# Altium footprint library SOT.PcbLib: 39 footprints (part 2 of 3)
Each footprint in its own frame and in the unit in brackets; x right, y up, seen from the top. Pads: shape width x height; smd on the part's side, far side on the other; paste and mask are expansions set on the pad; w line width, h text height; cw(c..) or ccw(c..) is an arc to the next point about the centre after c.
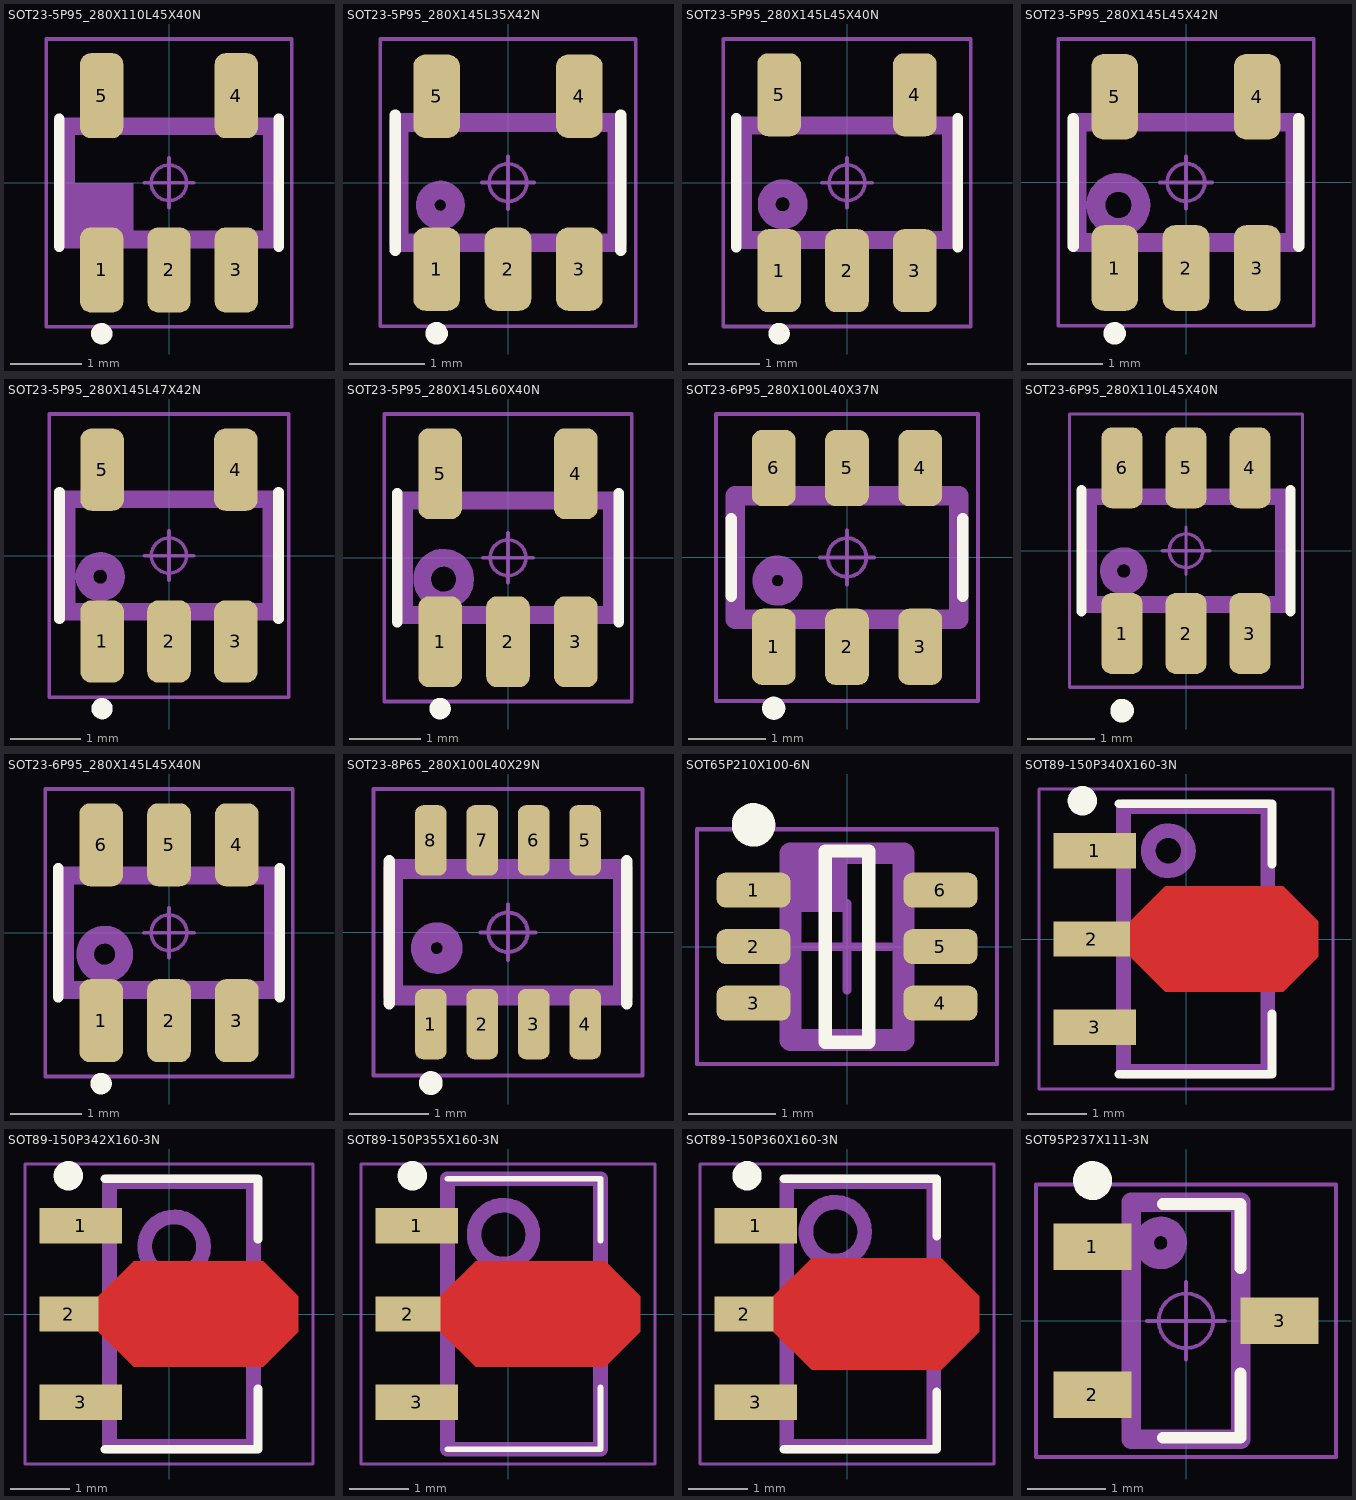
[diagram p1: the footprints below, top view; thin cyan lines are the x and y axes]

## SOT23-5P95_280X110L45X40N [mm] "Small Outline Transistor (SOT23), 0.95 mm pitch; 5 pin, 2.90 mm L X 1.60 mm W X 1.10 mm H body"
height 1.1
pads (5):
  rrect49% 0.61x1.2 smd: 1(-0.95,-1.23) 2(0,-1.23) 3(0.95,-1.23) 4(0.95,1.23) 5(-0.95,1.23)
Top Overlay:
  circle w0.15: c-0.95,-2.13 r0.075
  lines w0.15: -1.55,-0.9 -1.55,0.9 ; 1.55,-0.9 1.55,0.9
Top Assembly:
  rectangle: -1.45,-0.9 -0.5,0
  lines w0.25: -1.45,-0.8 -1.45,0.8 1.45,0.8 1.45,-0.8 -1.45,-0.8
  text ".Designator" at -3.378,1.561 h1.5
Top Courtyard:
  circle w0.05: c0,0 r0.25
  lines w0.05: -0.35,0 0.35,0 ; 0,-0.35 0,0.35 ; -1.73,-2.03 -1.73,2.03 1.73,2.03 1.73,-2.03 -1.73,-2.03
3D body "SOT23-5P95_280X110L45X40.STEP": height 1.1, standoff 0, extent -1.45,-1.4 1.45,1.4

## SOT23-5P95_280X145L35X42N [mm] "Small Outline Transistor (SOT23), 0.95 mm pitch; 5 pin, 2.90 mm L X 1.625 mm W X 1.45 mm H body"
height 1.45
pads (5):
  rrect52% 0.62x1.11 smd: 1(-0.95,-1.15) 2(0,-1.15) 3(0.95,-1.15) 4(0.95,1.15) 5(-0.95,1.15)
Top Overlay:
  circle w0.15: c-0.95,-2.005 r0.075
  lines w0.15: -1.5,-0.9 -1.5,0.9 ; 1.5,-0.9 1.5,0.9
Top Assembly:
  circle w0.25: c-0.9,-0.3 r0.2
  lines w0.25: -1.45,-0.8 -1.45,0.8 1.45,0.8 1.45,-0.8 -1.45,-0.8
  text ".Designator" at 0,0 h1.5
Top Courtyard:
  circle w0.05: c0,0 r0.25
  lines w0.05: -0.35,0 0.35,0 ; 0,-0.35 0,0.35 ; -1.7,-1.91 -1.7,1.91 1.7,1.91 1.7,-1.91 -1.7,-1.91
3D body "SOT23-5P95_280X145L35X42.STEP": height 1.45, standoff 0, extent -1.45,-1.4 1.45,1.4

## SOT23-5P95_280X145L45X40N [mm] "Small Outline Transistor (SOT23), 0.95 mm pitch; 5 pin, 2.90 mm L X 1.60 mm W X 1.45 mm H body"
height 1.45
pads (5):
  rrect49% 0.61x1.16 smd: 1(-0.95,-1.23) 2(0,-1.23) 3(0.95,-1.23) 4(0.95,1.23) 5(-0.95,1.23)
Top Overlay:
  circle w0.15: c-0.95,-2.11 r0.075
  lines w0.15: -1.55,-0.9 -1.55,0.9 ; 1.55,-0.9 1.55,0.9
Top Assembly:
  circle w0.25: c-0.9,-0.3 r0.224
  lines w0.25: -1.45,-0.8 1.45,-0.8 1.45,0.8 -1.45,0.8 -1.45,-0.8
  text ".Designator" at -3.378,1.361 h1.5
Top Courtyard:
  circle w0.05: c0,0 r0.25
  lines w0.05: -0.35,0 0.35,0 ; 0,-0.35 0,0.35 ; -1.73,-2.01 1.73,-2.01 1.73,2.01 -1.73,2.01 -1.73,-2.01
3D body "SOT23-5P95_280X145L45X40.STEP": height 1.45, standoff 0, extent -1.45,-1.4 1.45,1.4

## SOT23-5P95_280X145L45X42N [mm] "Small Outline Transistor (SOT23), 0.95 mm pitch; 5 pin, 2.90 mm L X 1.60 mm W X 1.45 mm H body"
height 1.45
pads (5):
  rrect52% 0.62x1.14 smd: 1(-0.95,-1.14) 2(0,-1.14) 3(0.95,-1.14) 4(0.95,1.14) 5(-0.95,1.14)
Top Overlay:
  circle w0.15: c-0.95,-2.01 r0.075
  lines w0.15: -1.5,-0.85 -1.5,0.85 ; 1.5,-0.85 1.5,0.85
Top Assembly:
  circle w0.25: c-0.9,-0.3 r0.3
  lines w0.25: -1.45,-0.8 -1.45,0.8 1.45,0.8 1.45,-0.8 -1.45,-0.8
  text ".Designator" at -3.378,1.361 h1.5
Top Courtyard:
  circle w0.05: c0,0 r0.25
  lines w0.05: -0.35,0 0.35,0 ; 0,-0.35 0,0.35 ; -1.7,-1.91 -1.7,1.91 1.7,1.91 1.7,-1.91 -1.7,-1.91
3D body "SOT23-5P95_280X145L45X42.STEP": height 1.45, standoff 0, extent -1.45,-1.4 1.45,1.4

## SOT23-5P95_280X145L47X42N [mm] "Small Outline Transistor (SOT23), 0.95 mm pitch; 5 pin, 2.90 mm L X 1.625 mm W X 1.45 mm H body"
height 1.45
pads (5):
  rrect52% 0.62x1.17 smd: 1(-0.95,-1.22) 2(0,-1.22) 3(0.95,-1.22) 4(0.95,1.22) 5(-0.95,1.22)
Top Overlay:
  circle w0.15: c-0.95,-2.175 r0.075
  lines w0.15: -1.555,-0.9 -1.555,0.9 ; 1.555,-0.9 1.555,0.9
Top Assembly:
  circle w0.25: c-0.976,-0.3 r0.224
  lines w0.25: -1.45,-0.8 1.45,-0.8 1.45,0.8 -1.45,0.8 -1.45,-0.8
  text ".Designator" at -3.378,1.261 h1.5
Top Courtyard:
  circle w0.05: c0,0 r0.25
  lines w0.05: -0.35,0 0.35,0 ; 0,-0.35 0,0.35 ; -1.7,-2.01 1.7,-2.01 1.7,2.01 -1.7,2.01 -1.7,-2.01
3D body "SOT23-5P95_280X145L47X42.STEP": height 1.45, standoff 0, extent -1.45,-1.4 1.45,1.4

## SOT23-5P95_280X145L60X40N [mm] "Small Outline Transistor (SOT23), 0.95 mm pitch; 5 pin, 2.90 mm L X 1.60 mm W X 1.45 mm H body"
height 1.45
pads (5):
  rrect49% 0.61x1.27 smd: 1(-0.95,-1.175) 2(0,-1.175) 3(0.95,-1.175) 4(0.95,1.175) 5(-0.95,1.175)
Top Overlay:
  circle w0.15: c-0.95,-2.11 r0.075
  lines w0.15: -1.55,-0.9 -1.55,0.9 ; 1.55,-0.9 1.55,0.9
Top Assembly:
  circle w0.25: c-0.9,-0.3 r0.3
  lines w0.25: -1.45,-0.8 1.45,-0.8 1.45,0.8 -1.45,0.8 -1.45,-0.8
  text ".Designator" at 0,0 h1.5
Top Courtyard:
  circle w0.05: c0,0 r0.25
  lines w0.05: -0.35,0 0.35,0 ; 0,-0.35 0,0.35 ; -1.73,-2.01 1.73,-2.01 1.73,2.01 -1.73,2.01 -1.73,-2.01
3D body "SOT23-5P95_280X145L60X40.STEP": height 1.45, standoff 0, extent -1.45,-1.4 1.45,1.4

## SOT23-6P95_280X100L40X37N [mm] "Small Outline Transistor (SOT23), 0.95 mm pitch; 6 pin, 2.90 mm L X 1.625 mm W X 1.00 mm H body"
height 1
pads (6):
  rrect49% 0.57x0.99 smd: 1(-0.95,-1.16) 2(0,-1.16) 3(0.95,-1.16) 4(0.95,1.16) 5(0,1.16) 6(-0.95,1.16)
Top Overlay:
  circle w0.15: c-0.95,-1.955 r0.075
  lines w0.15: -1.5,-0.5 -1.5,0.5 ; 1.5,-0.5 1.5,0.5
Top Assembly:
  circle w0.25: c-0.9,-0.3 r0.2
  lines w0.25: -1.45,-0.8 1.45,-0.8 1.45,0.8 -1.45,0.8 -1.45,-0.8
  text ".Designator" at -2.878,-0.339 h1.5
Top Courtyard:
  circle w0.05: c0,0 r0.25
  lines w0.05: -0.35,0 0.35,0 ; 0,-0.35 0,0.35 ; -1.7,-1.86 1.7,-1.86 1.7,1.86 -1.7,1.86 -1.7,-1.86
3D body "SOT23-6P95_280X100L40X37.STEP": height 1, standoff 0, extent -1.45,-1.4 1.45,1.4

## SOT23-6P95_280X110L45X40N [mm] "Small Outline Transistor (SOT23), 0.95 mm pitch; 6 pin, 2.90 mm L X 1.60 mm W X 1.10 mm H body"
height 1.1
pads (6):
  rrect49% 0.61x1.2 smd: 1(-0.95,-1.23) 2(0,-1.23) 3(0.95,-1.23) 4(0.95,1.23) 5(0,1.23) 6(-0.95,1.23)
Top Overlay:
  circle w0.25: c-0.95,-2.375 r0.05
  lines w0.15: -1.55,-0.9 -1.55,0.9 ; 1.55,-0.9 1.55,0.9
Top Assembly:
  circle w0.25: c-0.925,-0.3 r0.225
  lines w0.25: -1.45,-0.8 1.45,-0.8 1.45,0.8 -1.45,0.8 -1.45,-0.8
  text ".Designator" at 0,0 h1.5
Top Courtyard:
  circle w0.05: c0,0 r0.25
  lines w0.05: -0.35,0 0.35,0 ; 0,-0.35 0,0.35 ; -1.73,-2.03 1.73,-2.03 1.73,2.03 -1.73,2.03 -1.73,-2.03
3D body "SOT23-6P95_280X110L45X40.STEP": height 1.1, standoff 0, extent -1.45,-1.4 1.45,1.4

## SOT23-6P95_280X145L45X40N [mm] "Small Outline Transistor (SOT23), 0.95 mm pitch; 6 pin, 2.925 mm L X 1.625 mm W X 1.45 mm H body"
height 1.45
pads (6):
  rrect49% 0.61x1.16 smd: 1(-0.95,-1.23) 2(0,-1.23) 3(0.95,-1.23) 4(0.95,1.23) 5(0,1.23) 6(-0.95,1.23)
Top Overlay:
  circle w0.15: c-0.95,-2.11 r0.075
  lines w0.15: -1.55,-0.9 -1.55,0.9 ; 1.55,-0.9 1.55,0.9
Top Assembly:
  circle w0.25: c-0.9,-0.3 r0.273
  lines w0.25: -1.45,-0.8 1.45,-0.8 1.45,0.8 -1.45,0.8 -1.45,-0.8
  text ".Designator" at -3.378,1.361 h1.5
Top Courtyard:
  circle w0.05: c0,0 r0.25
  lines w0.05: -0.35,0 0.35,0 ; 0,-0.35 0,0.35 ; -1.73,-2.01 1.73,-2.01 1.73,2.01 -1.73,2.01 -1.73,-2.01
3D body "SOT23-6P95_280X145L45X40.STEP": height 1.45, standoff 0, extent -1.462,-1.4 1.462,1.4

## SOT23-8P65_280X100L40X29N [mm] "Small Outline Transistor (SOT23), 0.65 mm pitch; 8 pin, 2.90 mm L X 1.625 mm W X 1.00 mm H body"
height 1
pads (8):
  rrect50% 0.4x0.89 smd: 1(-0.975,-1.16) 2(-0.325,-1.16) 3(0.325,-1.16) 4(0.975,-1.16) 5(0.975,1.16) 6(0.325,1.16) 7(-0.325,1.16) 8(-0.975,1.16)
Top Overlay:
  circle w0.15: c-0.975,-1.905 r0.075
  lines w0.15: -1.5,-0.9 -1.5,0.9 ; 1.5,-0.9 1.5,0.9
Top Assembly:
  circle w0.25: c-0.9,-0.2 r0.2
  lines w0.25: -1.45,-0.8 -1.45,0.8 1.45,0.8 1.45,-0.8 -1.45,-0.8
  text ".Designator" at 0,0 h1.5
Top Courtyard:
  circle w0.05: c0,0 r0.25
  lines w0.05: -0.35,0 0.35,0 ; 0,-0.35 0,0.35 ; -1.7,-1.81 -1.7,1.81 1.7,1.81 1.7,-1.81 -1.7,-1.81
3D body "SOT23-8P65_280X100L40X29.STEP": height 1, standoff 0, extent -1.45,-1.4 1.45,1.4

## SOT65P210X100-6N [mm] "SOT23, 6-Leads, Body 2,00x2,10mm, Pitch 0,65mm, IPC Medium Density"
height 1
pads (6):
  rrect50% 0.85x0.4 smd: 1(-1.075,0.65) 2(-1.075,0) 3(-1.075,-0.65) 4(1.075,-0.65) 5(1.075,0) 6(1.075,0.65)
Top Overlay:
  circle w0.25: c-1.075,1.4 r0.125
  lines w0.15: -0.25,-1.1 -0.25,1.1 0.25,1.1 0.25,-1.1 -0.25,-1.1
Top Assembly:
  rectangle: -0.65,0.4 0,1.075
  lines w0.25: -0.65,-1.075 0.65,-1.075 0.65,1.075 -0.65,1.075 -0.65,-1.075
  text ".Designator" at -3.378,1.861 h1.5
Top Courtyard:
  lines w0.05: -1.725,-1.35 1.725,-1.35 1.725,1.35 -1.725,1.35 -1.725,-1.35
  lines w0.1: -0.5,0 0.5,0 ; 0,-0.5 0,0.5
3D body "SOT65P210X100-6N.step": height 1, standoff 0, extent -1.1,-1.075 1.1,1.075

## SOT89-150P340X160-3N [mm] "SOT89, 3-Leads, Body 4.50x2.45mm, Pitch 1.50mm, Lead Span 3.4mm, IPC Medium Density"
height 1.6
pads (3):
  rect 1.4x0.6 smd: 1(-1.55,1.5) 3(-1.55,-1.5)
  rect 1.3x0.6 smd: 2(-1.6,0)
Top Layer:
  region: -0.95,0.3 -0.35,0.9 1.65,0.9 2.25,0.3 2.25,-0.3 1.65,-0.9 -0.35,-0.9 -0.95,-0.3
Top Overlay:
  circle w0.25: c-1.763,2.35 r0.125
  lines w0.15: -1.138,-2.3 1.462,-2.3 1.462,-1.275 ; -1.138,2.3 1.462,2.3 1.462,1.275
Top Assembly:
  circle w0.25: c-0.3,1.5 r0.341
  lines w0.25: -1.062,-2.25 -1.062,2.25 1.388,2.25 1.388,-2.25 -1.062,-2.25
  text ".Designator" at -3.378,-0.339 h1.5
Top Courtyard:
  lines w0.05: -2.5,-2.55 -2.5,2.55 2.5,2.55 2.5,-2.55 -2.5,-2.55
  lines w0.1: -0.337,0 0.663,0 ; 0.162,-0.5 0.162,0.5
3D body "SOT89-150P340X160-3N.step": height 1.6, standoff 0, extent -2.2,-2.3 1.8,2.3

## SOT89-150P342X160-3N [mm] "SOT89, 3-Leads, Body 4,50x2,45mm, Pitch 1,50mm, Lead Span 3,4mm, IPC Medium Density"
height 1.6
pads (3):
  rect 1.4x0.6 smd: 1(-1.5,1.5) 3(-1.5,-1.5)
  rect 1x0.6 smd: 2(-1.7,0)
Top Layer:
  region: -1.2,0.3 -0.6,0.9 1.6,0.9 2.2,0.3 2.2,-0.3 1.6,-0.9 -0.6,-0.9 -1.2,-0.3
Top Overlay:
  circle w0.25: c-1.713,2.35 r0.125
  lines w0.15: -1.088,-2.3 1.512,-2.3 1.512,-1.275 ; -1.088,2.3 1.512,2.3 1.512,1.275
Top Assembly:
  circle w0.25: c0.088,1.15 r0.5
  lines w0.25: -1.012,-2.25 -1.012,2.25 1.438,2.25 1.438,-2.25 -1.012,-2.25
  text ".Designator" at -0.039,2.578 h1.5
Top Courtyard:
  lines w0.05: -2.45,-2.55 -2.45,2.55 2.45,2.55 2.45,-2.55 -2.45,-2.55
  lines w0.1: -0.288,0 0.713,0 ; 0.212,-0.5 0.212,0.5
3D body "SOT89-150P342X160-3N.step": height 1.6, standoff 0, extent -2.2,-2.297 2,2.297

## SOT89-150P355X160-3N [mm] "SOT89, 3-Leads, Body 4.50x2.50mm, Pitch 1.50mm, Lead Span 3.5mm, IPC Medium Density"
height 1.6
pads (3):
  rect 1.4x0.6 smd: 1(-1.55,1.5) 3(-1.55,-1.5)
  rect 1.1x0.6 smd: 2(-1.7,0)
Top Layer:
  region: -1.15,0.3 -0.55,0.9 1.65,0.9 2.25,0.3 2.25,-0.3 1.65,-0.9 -0.55,-0.9 -1.15,-0.3
Top Overlay:
  circle w0.25: c-1.627,2.35 r0.125
  lines w0.1: -1.028,-2.3 1.572,-2.3 1.572,-1.25 ; -1.028,2.3 1.572,2.3 1.572,1.25
Top Assembly:
  circle w0.25: c-0.078,1.35 r0.5
  lines w0.25: -1.028,-2.3 1.572,-2.3 1.572,2.3 -1.028,2.3 -1.028,-2.3
  text ".Designator" at 0.875,-2.05 h1.5
Top Courtyard:
  lines w0.05: -2.5,-2.55 2.5,-2.55 2.5,2.55 -2.5,2.55 -2.5,-2.55
  lines w0.1: -0.228,0 0.773,0 ; 0.272,-0.5 0.272,0.5
3D body "SOT89-150P355X160-3N.step": height 1.6, standoff 0, extent -2.2,-2.297 2.05,2.297

## SOT89-150P360X160-3N [mm] "SOT89, 3-Leads, Body 4.50x2.45mm, Pitch 1.50mm, Lead Span 3.6mm, IPC Medium Density"
height 1.6
pads (3):
  rect 1.4x0.6 smd: 1(-1.55,1.5) 3(-1.55,-1.5)
  rect 1x0.6 smd: 2(-1.75,0)
Top Layer:
  region: -1.25,0.3 -0.6,0.95 1.6,0.95 2.25,0.3 2.25,-0.3 1.6,-0.95 -0.6,-0.95 -1.25,-0.3
Top Overlay:
  circle w0.25: c-1.7,2.35 r0.125
  lines w0.15: -1.075,-2.3 1.525,-2.3 1.525,-1.325 ; -1.075,2.3 1.525,2.3 1.525,1.325
Top Assembly:
  circle w0.25: c-0.2,1.4 r0.5
  lines w0.25: -1.025,-2.25 -1.025,2.25 1.475,2.25 1.475,-2.25 -1.025,-2.25
  text ".Designator" at -3.378,-0.339 h1.5
Top Courtyard:
  lines w0.05: -2.5,-2.55 -2.5,2.55 2.5,2.55 2.5,-2.55 -2.5,-2.55
  lines w0.1: -0.275,0 0.725,0 ; 0.225,-0.5 0.225,0.5
3D body "SOT89-150P360X160-3N.step": height 1.6, standoff 0, extent -2.2,-2.297 2.1,2.297

## SOT95P237X111-3N [mm] "SOT23, 3-Leads, Body 2.92x2.37mm, Pitch 0.95mm, IPC Medium Density"
height 1.11
pads (3):
  rect 1x0.6 smd: 1(-1.2,0.95) 2(-1.2,-0.95) 3(1.2,0)
Top Overlay:
  circle w0.25: c-1.2,1.8 r0.125
  lines w0.15: -0.3,-1.5 0.7,-1.5 0.7,-0.675 ; -0.3,1.5 0.7,1.5 0.7,0.675
Top Assembly:
  circle w0.25: c-0.325,1 r0.212
  lines w0.25: -0.7,-1.52 -0.7,1.52 0.7,1.52 0.7,-1.52 -0.7,-1.52
  text ".Designator" at -0.375,-0.468 h1.5
Top Courtyard:
  circle w0.05: c0,0 r0.35
  lines w0.05: -0.5,0 0.5,0 ; 0,-0.5 0,0.5 ; -1.925,-1.75 -1.925,1.75 1.925,1.75 1.925,-1.75 -1.925,-1.75
3D body "SOT95P237X111-3N.step": height 1.11, standoff 0, extent -1.32,-1.52 1.32,1.52